# Altium schematic symbol library SMAJ.SchLib: 3 symbols
Pins are listed as number, name and electrical type; pins without a type are passive.

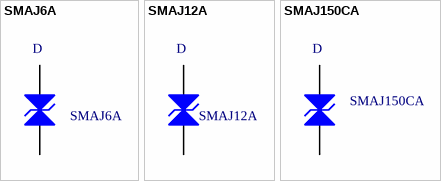
[diagram p0: symbols SMAJ6A to SMAJ150CA]

## SMAJ6A
designator D  value SMAJ6A  (hidden comment: *)
Manufacturer: MULTICOMP; Manufacturer Code: SMAJ6.0A; Voltage: 6V; Farnell Code: 1579007; Unit Price: 0,24 €
footprint SMA (Footprint not found)
pins: 1 A, 2 K

## SMAJ12A
designator D  value SMAJ12A  (hidden comment: *)
Manufacturer Code: SMAJ12A-E3/61; Manufacturer: VISHAY Semiconductor; Voltage: 12V; Farnell Code: 1837044; Unit Price: 0,32 €
footprint SMA
pins: 1 A, 2 K

## SMAJ150CA
designator D  value SMAJ150CA  (hidden comment: *)
Manufacturer: MULTICOMP; Voltage: 150V; Manufacturer Code: SMAJ150CA; Farnell Code: 1578957; Unit Price: 0,109 €
footprint SMA (Footprint not found)
pins: 1 A, 2 K